# Altium integrated library NSC Legacy.IntLib: 687 symbols (part 8 of 17)
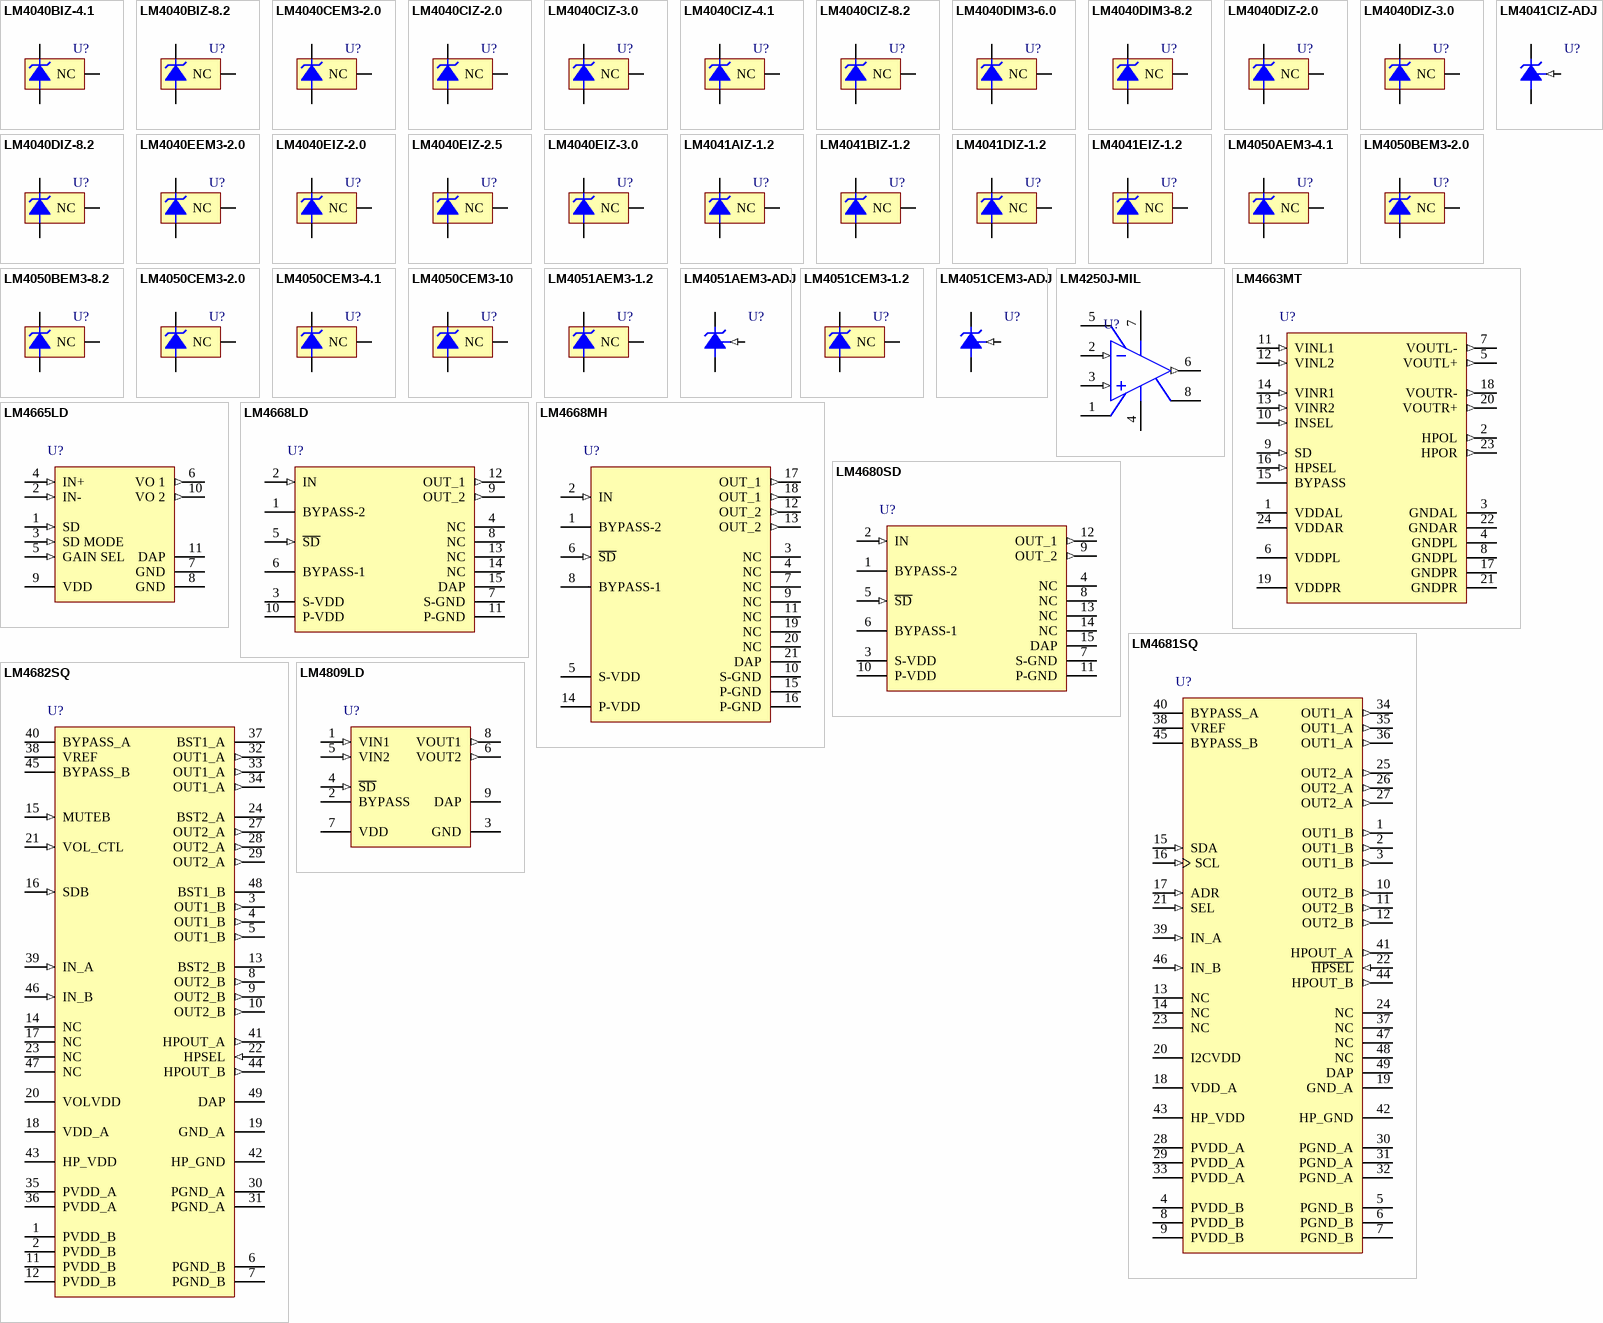
[diagram p31: symbols LM4040BIZ-4.1 to LM4809LD]

## LM4041CIZ-ADJ
designator U?
Precision Micropower Shunt Voltage Reference, 3-pin TO-92; PartNumber: LM4041CIZ-ADJ; Manufacturer: National Semiconductor; PackageTopMarking: NSXYTT*4041C*IZADJ; CompType: Voltage Reference IC; Published: 4-Dec-2008; LatestRevisionDate: 15-Jul-2009; LatestRevisionNote: Sch pins 1 & 3 reversed.; DatasheetVersion: Mar-2005; PackageVersion: revG, Sep-2000; PackageReference: Z03A; Publisher: Altium Limited; PackageDescription: TO-92, Molded, 3 Lead; RoHS: Y; PinCount: 3; Code_JEDEC: TO-226-AA; ComponentLink1Description: LM4041 Datasheet; ComponentLink1URL: http://www.national.com/ds/LM/LM4041.pdf; ComponentLink2Description: LM4041 Web Page; ComponentLink2URL: http://www.national.com/pf/LM/LM4041.html; ComponentLink3Description: Z03A Package Page; ComponentLink3URL: http://www.national.com/packaging/folders/z03a.html
footprint Z03A (TO, Flat Index; 3 In-Line, Axial Leads; Body Dia. 5mm; Leads 0.55 x 0.50 mm (max))
pins: 1 FB (in), 2 +V, 3 -V

## LM4041DIZ-1.2
designator U?
Precision Micropower Shunt Voltage Reference, 3-pin TO-92; PartNumber: LM4041DIZ-1.2; Manufacturer: National Semiconductor; PackageTopMarking: NSXYTT*4041D*IZ1.2; CompType: Voltage Reference IC; Published: 4-Dec-2008; LatestRevisionDate: 15-Jul-2009; LatestRevisionNote: Sch pins 1 & 3 reversed.; DatasheetVersion: Mar-2005; PackageVersion: revG, Sep-2000; PackageReference: Z03A; Publisher: Altium Limited; PackageDescription: TO-92, Molded, 3 Lead; Supplier 1: Farnell; Supplier Part Number 1: 9485988; RoHS: Y; PinCount: 3; Code_JEDEC: TO-226-AA; ComponentLink1Description: LM4041 Datasheet; ComponentLink1URL: http://www.national.com/ds/LM/LM4041.pdf; ComponentLink2Description: LM4041 Web Page; ComponentLink2URL: http://www.national.com/pf/LM/LM4041.html; ComponentLink3Description: Z03A Package Page; ComponentLink3URL: http://www.national.com/packaging/folders/z03a.html
footprint Z03A (TO, Flat Index; 3 In-Line, Axial Leads; Body Dia. 5mm; Leads 0.55 x 0.50 mm (max))
pins: 1 NC, 2 +V, 3 -V

## LM4041EIZ-1.2
designator U?
Precision Micropower Shunt Voltage Reference, 3-pin TO-92; PartNumber: LM4041EIZ-1.2; Manufacturer: National Semiconductor; PackageTopMarking: NSXYTT*4041E*IZ1.2; CompType: Voltage Reference IC; Published: 4-Dec-2008; LatestRevisionDate: 15-Jul-2009; LatestRevisionNote: Sch pins 1 & 3 reversed.; DatasheetVersion: Mar-2005; PackageVersion: revG, Sep-2000; PackageReference: Z03A; Publisher: Altium Limited; PackageDescription: TO-92, Molded, 3 Lead; RoHS: Y; PinCount: 3; Code_JEDEC: TO-226-AA; ComponentLink1Description: LM4041 Datasheet; ComponentLink1URL: http://www.national.com/ds/LM/LM4041.pdf; ComponentLink2Description: LM4041 Web Page; ComponentLink2URL: http://www.national.com/pf/LM/LM4041.html; ComponentLink3Description: Z03A Package Page; ComponentLink3URL: http://www.national.com/packaging/folders/z03a.html
footprint Z03A (TO, Flat Index; 3 In-Line, Axial Leads; Body Dia. 5mm; Leads 0.55 x 0.50 mm (max))
pins: 1 NC, 2 +V, 3 -V

## LM4050AEM3-4.1
designator U?
Precision Micropower Shunt Voltage Reference, 3-pin SOT-23; PartNumber: LM4050AEM3-4.1; Manufacturer: National Semiconductor; PackageTopMarking: RDA*XTT; CompType: Voltage Reference IC; Published: 4-Dec-2008; DatasheetVersion: Jul-2004; PackageVersion: revB, Mar-2003; PackageReference: MF03A; Publisher: Altium Limited; PackageDescription: Molded SOT-23, .115 x .051 x .037in Body, 3 Lead, .075 in Pitch; RoHS: Y; PinCount: 3; ComponentLink1Description: LM4050 Datasheet; ComponentLink1URL: http://www.national.com/ds/LM/LM4050.pdf; ComponentLink2Description: LM4050 Web Page; ComponentLink2URL: http://www.national.com/pf/LM/LM4050.html; ComponentLink3Description: MF03A Package Page; ComponentLink3URL: http://www.national.com/packaging/folders/mf03a.html
footprint MF03A_N (SOT23, 3-Leads, Body 2.9x1.3mm, Pitch 0.95mm, Lead Span 2.4mm, IPC Medium Density)
footprint MF03A_L (SOT23, 3-Leads, Body 2.9x1.3mm, Pitch 0.95mm, Lead Span 2.4mm, IPC High Density)
footprint MF03A_M (SOT23, 3-Leads, Body 2.9x1.3mm, Pitch 0.95mm, Lead Span 2.4mm, IPC Low Density)
pins: 1 +V, 2 -V, 3 NC

## LM4050BEM3-2.0
designator U?
Precision Micropower Shunt Voltage Reference, 3-pin SOT-23; PartNumber: LM4050BEM3-2.0; Manufacturer: National Semiconductor; PackageTopMarking: RNB*XTT; CompType: Voltage Reference IC; Published: 4-Dec-2008; DatasheetVersion: Jul-2004; PackageVersion: revB, Mar-2003; PackageReference: MF03A; Publisher: Altium Limited; PackageDescription: Molded SOT-23, .115 x .051 x .037in Body, 3 Lead, .075 in Pitch; RoHS: Y; PinCount: 3; ComponentLink1Description: LM4050 Datasheet; ComponentLink1URL: http://www.national.com/ds/LM/LM4050.pdf; ComponentLink2Description: LM4050 Web Page; ComponentLink2URL: http://www.national.com/pf/LM/LM4050.html; ComponentLink3Description: MF03A Package Page; ComponentLink3URL: http://www.national.com/packaging/folders/mf03a.html
footprint MF03A_N (SOT23, 3-Leads, Body 2.9x1.3mm, Pitch 0.95mm, Lead Span 2.4mm, IPC Medium Density)
footprint MF03A_L (SOT23, 3-Leads, Body 2.9x1.3mm, Pitch 0.95mm, Lead Span 2.4mm, IPC High Density)
footprint MF03A_M (SOT23, 3-Leads, Body 2.9x1.3mm, Pitch 0.95mm, Lead Span 2.4mm, IPC Low Density)
pins: 1 +V, 2 -V, 3 NC

## LM4050BEM3-8.2
designator U?
Precision Micropower Shunt Voltage Reference, 3-pin SOT-23; PartNumber: LM4050BEM3-8.2; Manufacturer: National Semiconductor; PackageTopMarking: RFB*XTT; CompType: Voltage Reference IC; Published: 4-Dec-2008; DatasheetVersion: Jul-2004; PackageVersion: revB, Mar-2003; PackageReference: MF03A; Publisher: Altium Limited; PackageDescription: Molded SOT-23, .115 x .051 x .037in Body, 3 Lead, .075 in Pitch; RoHS: Y; PinCount: 3; ComponentLink1Description: LM4050 Datasheet; ComponentLink1URL: http://www.national.com/ds/LM/LM4050.pdf; ComponentLink2Description: LM4050 Web Page; ComponentLink2URL: http://www.national.com/pf/LM/LM4050.html; ComponentLink3Description: MF03A Package Page; ComponentLink3URL: http://www.national.com/packaging/folders/mf03a.html
footprint MF03A_N (SOT23, 3-Leads, Body 2.9x1.3mm, Pitch 0.95mm, Lead Span 2.4mm, IPC Medium Density)
footprint MF03A_L (SOT23, 3-Leads, Body 2.9x1.3mm, Pitch 0.95mm, Lead Span 2.4mm, IPC High Density)
footprint MF03A_M (SOT23, 3-Leads, Body 2.9x1.3mm, Pitch 0.95mm, Lead Span 2.4mm, IPC Low Density)
pins: 1 +V, 2 -V, 3 NC

## LM4050CEM3-2.0
designator U?
Precision Micropower Shunt Voltage Reference, 3-pin SOT-23; PartNumber: LM4050CEM3-2.0; Manufacturer: National Semiconductor; PackageTopMarking: RNC*XTT; CompType: Voltage Reference IC; Published: 4-Dec-2008; DatasheetVersion: Jul-2004; PackageVersion: revB, Mar-2003; PackageReference: MF03A; Publisher: Altium Limited; PackageDescription: Molded SOT-23, .115 x .051 x .037in Body, 3 Lead, .075 in Pitch; Supplier 1: Farnell; Supplier Part Number 1: 1008015; RoHS: Y; PinCount: 3; ComponentLink1Description: LM4050 Datasheet; ComponentLink1URL: http://www.national.com/ds/LM/LM4050.pdf; ComponentLink2Description: LM4050 Web Page; ComponentLink2URL: http://www.national.com/pf/LM/LM4050.html; ComponentLink3Description: MF03A Package Page; ComponentLink3URL: http://www.national.com/packaging/folders/mf03a.html
footprint MF03A_N (SOT23, 3-Leads, Body 2.9x1.3mm, Pitch 0.95mm, Lead Span 2.4mm, IPC Medium Density)
footprint MF03A_L (SOT23, 3-Leads, Body 2.9x1.3mm, Pitch 0.95mm, Lead Span 2.4mm, IPC High Density)
footprint MF03A_M (SOT23, 3-Leads, Body 2.9x1.3mm, Pitch 0.95mm, Lead Span 2.4mm, IPC Low Density)
pins: 1 +V, 2 -V, 3 NC

## LM4050CEM3-4.1
designator U?
Precision Micropower Shunt Voltage Reference, 3-pin SOT-23; PartNumber: LM4050CEM3-4.1; Manufacturer: National Semiconductor; PackageTopMarking: RDC*XTT; CompType: Voltage Reference IC; Published: 4-Dec-2008; DatasheetVersion: Jul-2004; PackageVersion: revB, Mar-2003; PackageReference: MF03A; Publisher: Altium Limited; PackageDescription: Molded SOT-23, .115 x .051 x .037in Body, 3 Lead, .075 in Pitch; RoHS: Y; PinCount: 3; ComponentLink1Description: LM4050 Datasheet; ComponentLink1URL: http://www.national.com/ds/LM/LM4050.pdf; ComponentLink2Description: LM4050 Web Page; ComponentLink2URL: http://www.national.com/pf/LM/LM4050.html; ComponentLink3Description: MF03A Package Page; ComponentLink3URL: http://www.national.com/packaging/folders/mf03a.html
footprint MF03A_N (SOT23, 3-Leads, Body 2.9x1.3mm, Pitch 0.95mm, Lead Span 2.4mm, IPC Medium Density)
footprint MF03A_L (SOT23, 3-Leads, Body 2.9x1.3mm, Pitch 0.95mm, Lead Span 2.4mm, IPC High Density)
footprint MF03A_M (SOT23, 3-Leads, Body 2.9x1.3mm, Pitch 0.95mm, Lead Span 2.4mm, IPC Low Density)
pins: 1 +V, 2 -V, 3 NC

## LM4050CEM3-10
designator U?
Precision Micropower Shunt Voltage Reference, 3-pin SOT-23; PartNumber: LM4050CEM3-10; Manufacturer: National Semiconductor; PackageTopMarking: RGC*XTT; CompType: Voltage Reference IC; Published: 4-Dec-2008; DatasheetVersion: Jul-2004; PackageVersion: revB, Mar-2003; PackageReference: MF03A; Publisher: Altium Limited; PackageDescription: Molded SOT-23, .115 x .051 x .037in Body, 3 Lead, .075 in Pitch; Supplier 1: Digi-Key; Supplier Part Number 1: LM4050CEM3-10TR-ND; Supplier 2: Digi-Key; Supplier Part Number 2: LM4050CEM3-10CT-ND; Supplier 3: Digi-Key; Supplier Part Number 3: LM4050CEM3-10DKR-ND; RoHS: Y; PinCount: 3; ComponentLink1Description: LM4050 Datasheet; ComponentLink1URL: http://www.national.com/ds/LM/LM4050.pdf; ComponentLink2Description: LM4050 Web Page; ComponentLink2URL: http://www.national.com/pf/LM/LM4050.html; ComponentLink3Description: MF03A Package Page; ComponentLink3URL: http://www.national.com/packaging/folders/mf03a.html
footprint MF03A_N (SOT23, 3-Leads, Body 2.9x1.3mm, Pitch 0.95mm, Lead Span 2.4mm, IPC Medium Density)
footprint MF03A_L (SOT23, 3-Leads, Body 2.9x1.3mm, Pitch 0.95mm, Lead Span 2.4mm, IPC High Density)
footprint MF03A_M (SOT23, 3-Leads, Body 2.9x1.3mm, Pitch 0.95mm, Lead Span 2.4mm, IPC Low Density)
pins: 1 +V, 2 -V, 3 NC

## LM4051AEM3-1.2
designator U?
Precision Micropower Shunt Voltage Reference, 3-pin SOT-23; PartNumber: LM4051AEM3-1.2; Manufacturer: National Semiconductor; PackageTopMarking: RHA*XTT; CompType: Voltage Reference IC; Published: 4-Dec-2008; DatasheetVersion: Mar-2005; PackageVersion: revB, Mar-2003; PackageReference: MF03A; Publisher: Altium Limited; PackageDescription: Molded SOT-23, .115 x .051 x .037in Body, 3 Lead, .075 in Pitch; Supplier 1: Digi-Key; Supplier Part Number 1: LM4051AEM3-1.2TR-ND; Supplier 2: Digi-Key; Supplier Part Number 2: LM4051AEM3-1.2CT-ND; Supplier 3: Digi-Key; Supplier Part Number 3: LM4051AEM3-1.2DKR-ND; RoHS: Y; PinCount: 3; ComponentLink1Description: LM4051 Datasheet; ComponentLink1URL: http://www.national.com/ds/LM/LM4051.pdf; ComponentLink2Description: LM4051 Web Page; ComponentLink2URL: http://www.national.com/pf/LM/LM4051.html; ComponentLink3Description: MF03A Package Page; ComponentLink3URL: http://www.national.com/packaging/folders/mf03a.html
footprint MF03A_N (SOT23, 3-Leads, Body 2.9x1.3mm, Pitch 0.95mm, Lead Span 2.4mm, IPC Medium Density)
footprint MF03A_L (SOT23, 3-Leads, Body 2.9x1.3mm, Pitch 0.95mm, Lead Span 2.4mm, IPC High Density)
footprint MF03A_M (SOT23, 3-Leads, Body 2.9x1.3mm, Pitch 0.95mm, Lead Span 2.4mm, IPC Low Density)
pins: 1 +V, 2 -V, 3 NC

## LM4051AEM3-ADJ
designator U?
Precision Micropower Shunt Voltage Reference, 3-pin SOT-23; PartNumber: LM4051AEM3-ADJ; Manufacturer: National Semiconductor; PackageTopMarking: RIA*XTT; CompType: Voltage Reference IC; Published: 4-Dec-2008; DatasheetVersion: Mar-2005; PackageVersion: revB, Mar-2003; PackageReference: MF03A; Publisher: Altium Limited; PackageDescription: Molded SOT-23, .115 x .051 x .037in Body, 3 Lead, .075 in Pitch; RoHS: Y; PinCount: 3; ComponentLink1Description: LM4051 Datasheet; ComponentLink1URL: http://www.national.com/ds/LM/LM4051.pdf; ComponentLink2Description: LM4051 Web Page; ComponentLink2URL: http://www.national.com/pf/LM/LM4051.html; ComponentLink3Description: MF03A Package Page; ComponentLink3URL: http://www.national.com/packaging/folders/mf03a.html
footprint MF03A_N (SOT23, 3-Leads, Body 2.9x1.3mm, Pitch 0.95mm, Lead Span 2.4mm, IPC Medium Density)
footprint MF03A_L (SOT23, 3-Leads, Body 2.9x1.3mm, Pitch 0.95mm, Lead Span 2.4mm, IPC High Density)
footprint MF03A_M (SOT23, 3-Leads, Body 2.9x1.3mm, Pitch 0.95mm, Lead Span 2.4mm, IPC Low Density)
pins: 1 FB (in), 2 +V, 3 -V

## LM4051CEM3-1.2
designator U?
Precision Micropower Shunt Voltage Reference, 3-pin SOT-23; PartNumber: LM4051CEM3-1.2; Manufacturer: National Semiconductor; PackageTopMarking: RHC*XTT; CompType: Voltage Reference IC; Published: 4-Dec-2008; DatasheetVersion: Mar-2005; PackageVersion: revB, Mar-2003; PackageReference: MF03A; Publisher: Altium Limited; PackageDescription: Molded SOT-23, .115 x .051 x .037in Body, 3 Lead, .075 in Pitch; RoHS: Y; PinCount: 3; ComponentLink1Description: LM4051 Datasheet; ComponentLink1URL: http://www.national.com/ds/LM/LM4051.pdf; ComponentLink2Description: LM4051 Web Page; ComponentLink2URL: http://www.national.com/pf/LM/LM4051.html; ComponentLink3Description: MF03A Package Page; ComponentLink3URL: http://www.national.com/packaging/folders/mf03a.html
footprint MF03A_N (SOT23, 3-Leads, Body 2.9x1.3mm, Pitch 0.95mm, Lead Span 2.4mm, IPC Medium Density)
footprint MF03A_L (SOT23, 3-Leads, Body 2.9x1.3mm, Pitch 0.95mm, Lead Span 2.4mm, IPC High Density)
footprint MF03A_M (SOT23, 3-Leads, Body 2.9x1.3mm, Pitch 0.95mm, Lead Span 2.4mm, IPC Low Density)
pins: 1 +V, 2 -V, 3 NC

## LM4051CEM3-ADJ
designator U?
Precision Micropower Shunt Voltage Reference, 3-pin SOT-23; PartNumber: LM4051CEM3-ADJ; Manufacturer: National Semiconductor; PackageTopMarking: RIC*XTT; CompType: Voltage Reference IC; Published: 4-Dec-2008; DatasheetVersion: Mar-2005; PackageVersion: revB, Mar-2003; PackageReference: MF03A; Publisher: Altium Limited; PackageDescription: Molded SOT-23, .115 x .051 x .037in Body, 3 Lead, .075 in Pitch; RoHS: Y; PinCount: 3; ComponentLink1Description: LM4051 Datasheet; ComponentLink1URL: http://www.national.com/ds/LM/LM4051.pdf; ComponentLink2Description: LM4051 Web Page; ComponentLink2URL: http://www.national.com/pf/LM/LM4051.html; ComponentLink3Description: MF03A Package Page; ComponentLink3URL: http://www.national.com/packaging/folders/mf03a.html
footprint MF03A_N (SOT23, 3-Leads, Body 2.9x1.3mm, Pitch 0.95mm, Lead Span 2.4mm, IPC Medium Density)
footprint MF03A_L (SOT23, 3-Leads, Body 2.9x1.3mm, Pitch 0.95mm, Lead Span 2.4mm, IPC High Density)
footprint MF03A_M (SOT23, 3-Leads, Body 2.9x1.3mm, Pitch 0.95mm, Lead Span 2.4mm, IPC Low Density)
pins: 1 FB (in), 2 +V, 3 -V

## LM4250J-MIL
designator U?
Programmable Operational Amplifier, 8-pin CerDIP; PartNumber: LM4250J-MIL; Manufacturer: National Semiconductor; PackageTopMarking: NSZSSXXYYA*LM4250J*-MIL; CompType: Amplifiers; Published: 4-Dec-2008; DatasheetVersion: Aug-2000; PackageVersion: revM, Jul-2002; PackageReference: J08A; Publisher: Altium Limited; PackageDescription: Cerdip, .400 x .310in Body, 8 Lead, .300in Centers, .100in Pitch; RoHS: N; PinCount: 8; ComponentLink1Description: LM4250 Datasheet; ComponentLink1URL: http://www.national.com/ds/LM/LM4250.pdf; ComponentLink2Description: LM4250 Web Page; ComponentLink2URL: http://www.national.com/pf/LM/LM4250.html; ComponentLink3Description: J08A Package Page; ComponentLink3URL: http://www.national.com/packaging/folders/j08a.html
footprint J08A (DIP, 8-Leads, Row Spacing 7.62mm, Pitch 2.54mm, Body 9.78x6.73mm)
pins: 1 OFS NULL, 2 IN- (in), 3 IN+ (in), 4 V- (power), 5 OFS NULL, 6 OUT (out), 7 V+ (power), 8 I SET

## LM4663MT
designator U?
2.5 W Stereo Class D Audio Power Amplifier, 24-pin TSSOP; PartNumber: LM4663MT; Manufacturer: National Semiconductor; PackageTopMarking: NSUZXYTT*LM4663MT; CompType: Audio IC; Published: 4-Dec-2008; DatasheetVersion: Apr-2006; PackageVersion: revE, Mar-2003; PackageReference: MTC24; Publisher: Altium Limited; PackageDescription: Molded TSSOP, Jedec, 7.8 x 4.4 x 0.9mm Body, 24 Lead, 0.65mm Pitch; Supplier 1: Farnell; Supplier Part Number 1: 9778969; RoHS: Y; PinCount: 24; Code_JEDEC: MO-153-AD; ComponentLink1Description: LM4663 Datasheet; ComponentLink1URL: http://www.national.com/ds/LM/LM4663.pdf; ComponentLink2Description: LM4663 Web Page; ComponentLink2URL: http://www.national.com/pf/LM/LM4663.html; ComponentLink3Description: MTC24 Package Page; ComponentLink3URL: http://www.national.com/packaging/folders/mtc24.html
footprint MTC24_N (TSOP, 24-Leads, Body 7.8x4.4mm, Pitch 0.65mm, IPC Medium Density)
footprint MTC24_L (TSOP, 24-Leads, Body 7.8x4.4mm, Pitch 0.65mm, IPC High Density)
footprint MTC24_M (TSOP, 24-Leads, Body 7.8x4.4mm, Pitch 0.65mm, IPC Low Density)
pins: 1 VDDAL (power), 2 HPOL (out), 3 GNDAL (power), 4 GNDPL (power), 5 VOUTL+ (out), 6 VDDPL (power), 7 VOUTL- (out), 8 GNDPL (power), 9 SD (in), 10 INSEL (in), 11 VINL1 (in), 12 VINL2 (in), 13 VINR2 (in), 14 VINR1 (in), 15 BYPASS, 16 HPSEL (in), 17 GNDPR (power), 18 VOUTR- (out), 19 VDDPR (power), 20 VOUTR+ (out), 21 GNDPR (power), 22 GNDAR (power), 23 HPOR (out), 24 VDDAR (power)

## LM4665LD
designator U?
Filterless High Efficiency 1W Switching Audio Amplifier, 11-pin LLP; PartNumber: LM4665LD; Manufacturer: National Semiconductor; PackageTopMarking: ZXYTT*L4665; CompType: Audio IC; Published: 4-Dec-2008; DatasheetVersion: Dec-2002; PackageVersion: revB, Jun-2003; PackageReference: LDA10B; Publisher: Altium Limited; PackageDescription: LLP, Plastic, Dual, 3 x 4 x 0.75mm Body, 10 Lead, 0.5mm Pitch; RoHS: Y; PinCount: 10; Code_JEDEC: MO-229-WEGD; ComponentLink1Description: LM4665 Datasheet; ComponentLink1URL: http://www.national.com/ds/LM/LM4665.pdf; ComponentLink2Description: LM4665 Web Page; ComponentLink2URL: http://www.national.com/pf/LM/LM4665.html; ComponentLink3Description: LDA10B Package Page; ComponentLink3URL: http://www.national.com/packaging/folders/lda10b.html
footprint LDA10B (PSON, 10-Leads, Body 3x4mm, Pitch 0.5mm, NSC Recommended)
pins: 1 SD (in), 2 IN- (in), 3 SD MODE (in), 4 IN+ (in), 5 GAIN SEL (in), 6 VO 1 (out), 7 GND (power), 8 GND (power), 9 VDD (power), 10 VO 2 (out), 11 DAP (power)

## LM4668LD
designator U?
10W High-Efficiency Mono BTL Audio Power Amplifier, 15-pin LLP; PartNumber: LM4668LD; Manufacturer: National Semiconductor; PackageTopMarking: NS*UZXYTT*L4668LD; PowerWise: N; CompType: Audio IC; Published: 4-Dec-2008; DatasheetVersion: Oct-2004; PackageVersion: revA, Dec-2000; PackageReference: LDC14A; Publisher: Altium Limited; PackageDescription: Power LLP, Plastic, Dual, 6 x 5 x 1.0mm Body, 14 Lead, 0.8mm Pitch; Supplier 1: Farnell; Supplier Part Number 1: 8238669; RoHS: Y; PinCount: 14; ComponentLink1Description: LM4668 Datasheet; ComponentLink1URL: http://www.national.com/ds/LM/LM4668.pdf; ComponentLink2Description: LM4668 Web Page; ComponentLink2URL: http://www.national.com/pf/LM/LM4668.html; ComponentLink3Description: LDC14A Package Page; ComponentLink3URL: http://www.national.com/packaging/folders/ldc14a.html
footprint LDC14A (PSON, 14-Leads, Body 6x5mm, Pitch 0.8mm, NSC Recommended)
pins: 1 BYPASS-2, 2 IN (in), 3 S-VDD (power), 4 NC, 5 ~{SD} (in), 6 BYPASS-1, 7 S-GND (power), 8 NC, 9 OUT_2 (out), 10 P-VDD (power), 11 P-GND (power), 12 OUT_1 (out), 13 NC, 14 NC, 15 DAP (power)

## LM4668MH
designator U?
10W High-Efficiency Mono BTL Audio Power Amplifier, 21-pin TSSOP-EP; PartNumber: LM4668MH; Manufacturer: National Semiconductor; PackageTopMarking: NSUZXYTT*LM4668*MH; PowerWise: N; CompType: Audio IC; Published: 4-Dec-2008; DatasheetVersion: Oct-2004; PackageVersion: revC, Jul-2006; PackageReference: MXA20A; Publisher: Altium Limited; PackageDescription: Molded TSSOP, Jedec, 6.5 x 4.4 x 0.9mm Body, 20 Lead, 0.65mm Pitch, Exposed Pad; RoHS: Y; PinCount: 20; Code_JEDEC: MO-153-ACT; ComponentLink1Description: LM4668 Datasheet; ComponentLink1URL: http://www.national.com/ds/LM/LM4668.pdf; ComponentLink2Description: LM4668 Web Page; ComponentLink2URL: http://www.national.com/pf/LM/LM4668.html; ComponentLink3Description: MXA20A Package Page; ComponentLink3URL: http://www.national.com/packaging/folders/mxa20a.html
footprint MXA20A_N (TSOP, 20-Leads, Body 6.5x4.4mm, Pitch 0.65mm, Exposed Pad, IPC Medium Density)
footprint MXA20A_L (TSOP, 20-Leads, Body 6.5x4.4mm, Pitch 0.65mm, Exposed Pad, IPC High Density)
footprint MXA20A_M (TSOP, 20-Leads, Body 6.5x4.4mm, Pitch 0.65mm, Exposed Pad, IPC Low Density)
pins: 1 BYPASS-2, 2 IN (in), 3 NC, 4 NC, 5 S-VDD (power), 6 ~{SD} (in), 7 NC, 8 BYPASS-1, 9 NC, 10 S-GND (power), 11 NC, 12 OUT_2 (out), 13 OUT_2 (out), 14 P-VDD (power), 15 P-GND (power), 16 P-GND (power), 17 OUT_1 (out), 18 OUT_1 (out), 19 NC, 20 NC, 21 DAP (power)

## LM4680SD
designator U?
10W High-Efficiency Mono BTL Audio Power Amplifier, 15-pin LLP; PartNumber: LM4680SD; Manufacturer: National Semiconductor; PackageTopMarking: NS*UZXYTT*L4680SD; PowerWise: N; CompType: Audio IC; Published: 4-Dec-2008; DatasheetVersion: Jan-2005; PackageVersion: revA, Jul-2003; PackageReference: SRC14A; Publisher: Altium Limited; PackageDescription: LLP, Plastic, Dual, 6 x 5 x 1mm Body, 14 Lead, 0.8mm Pitch, No Pullback; Supplier 1: Farnell; Supplier Part Number 1: 1008017; RoHS: Y; PinCount: 14; ComponentLink1Description: LM4680 Datasheet; ComponentLink1URL: http://www.national.com/ds/LM/LM4680.pdf; ComponentLink2Description: LM4680 Web Page; ComponentLink2URL: http://www.national.com/pf/LM/LM4680.html; ComponentLink3Description: SRC14A Package Page; ComponentLink3URL: http://www.national.com/packaging/folders/src14a.html
footprint SRC14A (SON, 14-Leads, Body 6x5 mm, Pitch 0.8mm, NSC Recommended)
pins: 1 BYPASS-2, 2 IN (in), 3 S-VDD (power), 4 NC, 5 ~{SD} (in), 6 BYPASS-1, 7 S-GND (power), 8 NC, 9 OUT_2 (out), 10 P-VDD (power), 11 P-GND (power), 12 OUT_1 (out), 13 NC, 14 NC, 15 DAP (power)

## LM4681SQ
designator U?
10W Stereo CLASS D Audio Power Amplifier with Stereo Headphone Amplifier and I2C/SPI Volume Control, 49-pin LLP; PartNumber: LM4681SQ; Manufacturer: National Semiconductor; PackageTopMarking: NS*UZXYTT*L4681SQ; PowerWise: N; CompType: Audio IC; Published: 4-Dec-2008; DatasheetVersion: Mar-2006; PackageVersion: revB, May-2009; PackageReference: SQA48A; Publisher: Altium Limited; PackageDescription: LLP, Plastic, Quad, 7 x 7 x 0.8mm Body, 48 Lead, 0.5mm Pitch, No Pullback; RoHS: Y; PinCount: 48; Code_JEDEC: MO-220-WKKD-2; ComponentLink1Description: LM4681 Datasheet; ComponentLink1URL: http://www.national.com/ds/LM/LM4681.pdf; ComponentLink2Description: LM4681 Web Page; ComponentLink2URL: http://www.national.com/pf/LM/LM4681.html; ComponentLink3Description: SQA48A Package Page; ComponentLink3URL: http://www.national.com/packaging/folders/sqa48a.html
footprint SQA48A (QFN, 48-Leads, Body 7x7mm, Pitch 0.5mm, NSC Recommended)
pins: 1 OUT1_B (out), 2 OUT1_B (out), 3 OUT1_B (out), 4 PVDD_B (power), 5 PGND_B (power), 6 PGND_B (power), 7 PGND_B (power), 8 PVDD_B (power), 9 PVDD_B (power), 10 OUT2_B (out), 11 OUT2_B (out), 12 OUT2_B (out), 13 NC, 14 NC, 15 SDA (in), 16 SCL (in), 17 ADR (in), 18 VDD_A (power), 19 GND_A (power), 20 I2CVDD (power), 21 SEL (in), 22 ~{HPSEL} (in), 23 NC, 24 NC, 25 OUT2_A (out), 26 OUT2_A (out), 27 OUT2_A (out), 28 PVDD_A (power), 29 PVDD_A (power), 30 PGND_A (power), 31 PGND_A (power), 32 PGND_A (power), 33 PVDD_A (power), 34 OUT1_A (out), 35 OUT1_A (out), 36 OUT1_A (out), 37 NC, 38 VREF, 39 IN_A (in), 40 BYPASS_A, 41 HPOUT_A (out), 42 HP_GND (power), 43 HP_VDD (power), 44 HPOUT_B (out), 45 BYPASS_B, 46 IN_B (in), 47 NC, 48 NC, 49 DAP (power)

## LM4682SQ
designator U?
10W Stereo CLASS D Audio Power Amplifier with Stereo Headphone Amplifier and DC Volume Control, 49-pin LLP; PartNumber: LM4682SQ; Manufacturer: National Semiconductor; PackageTopMarking: NS*UZXYTT*L4682SQ; PowerWise: N; CompType: Audio IC; Published: 4-Dec-2008; DatasheetVersion: Apr-2008; PackageVersion: revB, May-2009; PackageReference: SQA48A; Publisher: Altium Limited; PackageDescription: LLP, Plastic, Quad, 7 x 7 x 0.8mm Body, 48 Lead, 0.5mm Pitch, No Pullback; RoHS: Y; PinCount: 48; Code_JEDEC: MO-220-WKKD-2; ComponentLink1Description: LM4682 Datasheet; ComponentLink1URL: http://www.national.com/ds/LM/LM4682.pdf; ComponentLink2Description: LM4682 Web Page; ComponentLink2URL: http://www.national.com/pf/LM/LM4682.html; ComponentLink3Description: SQA48A Package Page; ComponentLink3URL: http://www.national.com/packaging/folders/sqa48a.html
footprint SQA48A (QFN, 48-Leads, Body 7x7mm, Pitch 0.5mm, NSC Recommended)
pins: 1 PVDD_B (power), 2 PVDD_B (power), 3 OUT1_B (out), 4 OUT1_B (out), 5 OUT1_B (out), 6 PGND_B (power), 7 PGND_B (power), 8 OUT2_B (out), 9 OUT2_B (out), 10 OUT2_B (out), 11 PVDD_B (power), 12 PVDD_B (power), 13 BST2_B, 14 NC, 15 MUTEB (in), 16 SDB (in), 17 NC, 18 VDD_A (power), 19 GND_A (power), 20 VOLVDD (power), 21 VOL_CTL (in), 22 HPSEL (in), 23 NC, 24 BST2_A, 27 OUT2_A (out), 28 OUT2_A (out), 29 OUT2_A (out), 30 PGND_A (power), 31 PGND_A (power), 32 OUT1_A (out), 33 OUT1_A (out), 34 OUT1_A (out), 35 PVDD_A (power), 36 PVDD_A (power), 37 BST1_A, 38 VREF, 39 IN_A (in), 40 BYPASS_A, 41 HPOUT_A (out), 42 HP_GND (power), 43 HP_VDD (power), 44 HPOUT_B (out), 45 BYPASS_B, 46 IN_B (in), 47 NC, 48 BST1_B, 49 DAP (power)

## LM4809LD
designator U?
Dual 105mW Headphone Amplifier with Active-Low Shutdown Mode, 9-pin LLP; PartNumber: LM4809LD; Manufacturer: National Semiconductor; PackageTopMarking: XYTT*G09; CompType: Audio IC; Published: 4-Dec-2008; DatasheetVersion: Apr-2004; PackageVersion: revB, Jun-2003; PackageReference: LDA08B; Publisher: Altium Limited; PackageDescription: LLP, Plastic, Dual, 2.5 x 2.5 x 0.75mm Body, 8 Lead, 0.5mm Pitch; RoHS: Y; PinCount: 8; Code_JEDEC: MO-229-WDDD-2; ComponentLink1Description: LM4809 Datasheet; ComponentLink1URL: http://www.national.com/ds/LM/LM4809.pdf; ComponentLink2Description: LM4809 Web Page; ComponentLink2URL: http://www.national.com/pf/LM/LM4809.html; ComponentLink3Description: LDA08B Package Page; ComponentLink3URL: http://www.national.com/packaging/folders/lda08b.html
footprint LDA08B (PSON, 8-Leads, Body 2.5x2.5mm, Pitch 0.5mm, NSC Recommended)
pins: 1 VIN1 (in), 2 BYPASS, 3 GND (power), 4 ~{SD} (in), 5 VIN2 (in), 6 VOUT2 (out), 7 VDD (power), 8 VOUT1 (out), 9 DAP (power)

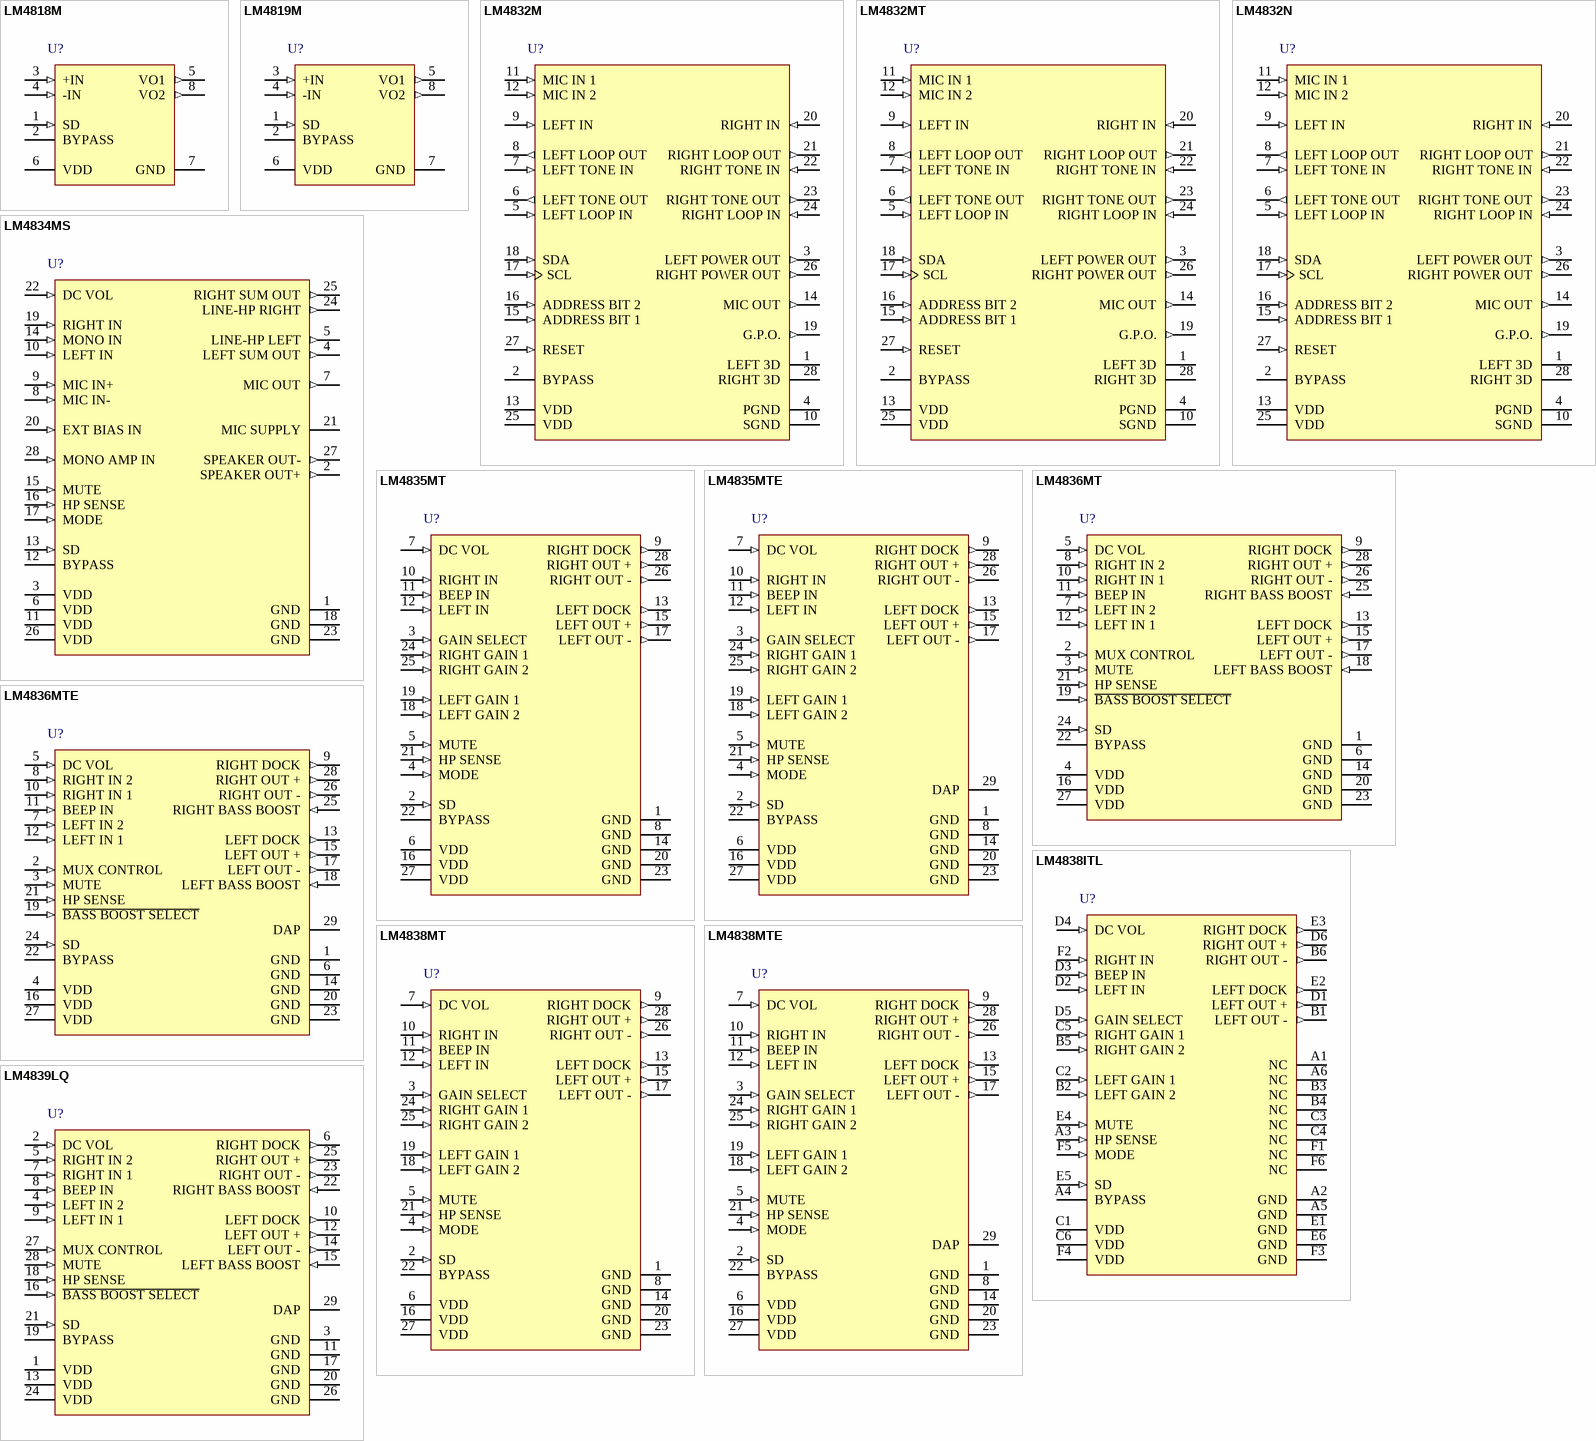
[diagram p12: symbols LM4818M to LM4839LQ]

## LM4818M
designator U?
350mW Audio Power Amplifier with Shutdown Mode, 8-pin Narrow SOIC; PartNumber: LM4818M; Manufacturer: National Semiconductor; PackageTopMarking: NSZXTT*LM48*18M; CompType: Audio IC; Published: 4-Dec-2008; DatasheetVersion: Apr-2002; PackageVersion: revM, May-2009; PackageReference: M08A; Publisher: Altium Limited; PackageDescription: SOIC Narrow, 4.9 x 3.9 x 1.45mm, 8 Lead, 1.27mm Pitch; RoHS: Y; PinCount: 8; Code_JEDEC: MS-012-AA; Code_IPC: SOIC127P600-8; ComponentLink1Description: LM4818 Datasheet; ComponentLink1URL: http://www.national.com/ds/LM/LM4818.pdf; ComponentLink2Description: LM4818 Web Page; ComponentLink2URL: http://www.national.com/pf/LM/LM4818.html; ComponentLink3Description: M08A Package Page; ComponentLink3URL: http://www.national.com/packaging/folders/m08a.html
footprint M08A_N (SOIC, 8-Leads, Body 4.9x3.9mm, Pitch 1.27mm, IPC Medium Density)
footprint M08A_L (SOIC, 8-Leads, Body 4.9x3.9mm, Pitch 1.27mm, IPC High Density)
footprint M08A_M (SOIC, 8-Leads, Body 4.9x3.9mm, Pitch 1.27mm, IPC Low Density)
pins: 1 SD (in), 2 BYPASS, 3 +IN (in), 4 -IN (in), 5 VO1 (out), 6 VDD (power), 7 GND (power), 8 VO2 (out)

## LM4819M
designator U?
350mW Audio Power Amplifier with Shutdown Mode, 8-pin Narrow SOIC; PartNumber: LM4819M; Manufacturer: National Semiconductor; PackageTopMarking: NSZXTT*LM48*19M; CompType: Audio IC; Published: 4-Dec-2008; DatasheetVersion: Apr-2002; PackageVersion: revM, May-2009; PackageReference: M08A; Publisher: Altium Limited; PackageDescription: SOIC Narrow, 4.9 x 3.9 x 1.45mm, 8 Lead, 1.27mm Pitch; Supplier 1: Digi-Key; Supplier Part Number 1: LM4819M-ND; RoHS: Y; PinCount: 8; Code_JEDEC: MS-012-AA; Code_IPC: SOIC127P600-8; ComponentLink1Description: LM4819 Datasheet; ComponentLink1URL: http://www.national.com/ds/LM/LM4819.pdf; ComponentLink2Description: LM4819 Web Page; ComponentLink2URL: http://www.national.com/pf/LM/LM4819.html; ComponentLink3Description: M08A Package Page; ComponentLink3URL: http://www.national.com/packaging/folders/m08a.html
footprint M08A_N (SOIC, 8-Leads, Body 4.9x3.9mm, Pitch 1.27mm, IPC Medium Density)
footprint M08A_L (SOIC, 8-Leads, Body 4.9x3.9mm, Pitch 1.27mm, IPC High Density)
footprint M08A_M (SOIC, 8-Leads, Body 4.9x3.9mm, Pitch 1.27mm, IPC Low Density)
pins: 1 SD (in), 2 BYPASS, 3 +IN (in), 4 -IN (in), 5 VO1 (out), 6 VDD (power), 7 GND (power), 8 VO2 (out)

## LM4832M
designator U?
Digitally Controlled Tone and Volume Circuit with Stereo Audio Power Amplifier, Microphone Preamp Stage and National 3D Sound, 28-pin Wide SOIC; PartNumber: LM4832M; Manufacturer: National Semiconductor; PackageTopMarking: NSUZXYTT*LM4832M; PowerWise: N; CompType: Audio IC; Published: 4-Dec-2008; DatasheetVersion: Dec-2003; PackageVersion: revB, Nov-1997; PackageReference: M28B; Publisher: Altium Limited; PackageDescription: Molded Package, S.O., .300in Wide, 28 Lead; RoHS: O; PinCount: 28; ComponentLink1Description: LM4832 Datasheet; ComponentLink1URL: http://www.national.com/ds/LM/LM4832.pdf; ComponentLink2Description: LM4832 Web Page; ComponentLink2URL: http://www.national.com/pf/LM/LM4832.html; ComponentLink3Description: M28B Package Page; ComponentLink3URL: http://www.national.com/packaging/folders/m28b.html
footprint M28B_N (SOIC, 28-Leads, Body 17.9x7.5mm, Pitch 1.27mm, IPC Medium Density)
footprint M28B_L (SOIC, 28-Leads, Body 17.9x7.5mm, Pitch 1.27mm, IPC High Density)
footprint M28B_M (SOIC, 28-Leads, Body 17.9x7.5mm, Pitch 1.27mm, IPC Low Density)
pins: 1 LEFT 3D, 2 BYPASS, 3 LEFT POWER OUT (out), 4 PGND (power), 5 LEFT LOOP IN (in), 6 LEFT TONE OUT (out), 7 LEFT TONE IN (in), 8 LEFT LOOP OUT (out), 9 LEFT IN (in), 10 SGND (power), 11 MIC IN 1 (in), 12 MIC IN 2 (in), 13 VDD (power), 14 MIC OUT (out), 15 ADDRESS BIT 1 (in), 16 ADDRESS BIT 2 (in), 17 SCL (in), 18 SDA (in), 19 G.P.O. (out), 20 RIGHT IN (in), 21 RIGHT LOOP OUT (out), 22 RIGHT TONE IN (in), 23 RIGHT TONE OUT (out), 24 RIGHT LOOP IN (in), 25 VDD (power), 26 RIGHT POWER OUT (out), 27 RESET (in), 28 RIGHT 3D

## LM4832MT
designator U?
Digitally Controlled Tone and Volume Circuit with Stereo Audio Power Amplifier, Microphone Preamp Stage and National 3D Sound, 28-pin TSSOP; PartNumber: LM4832MT; Manufacturer: National Semiconductor; PackageTopMarking: NSUZXYTT*LM4832MT; PowerWise: N; CompType: Audio IC; Published: 4-Dec-2008; DatasheetVersion: Dec-2003; PackageVersion: revD, Jan-2005; PackageReference: MTC28; Publisher: Altium Limited; PackageDescription: Molded TSSOP, Jedec, 9.7 x 4.4 x 0.9mm Body, 28 Lead, 0.65mm Pitch; RoHS: Y; PinCount: 28; Code_JEDEC: MO-153-AE; ComponentLink1Description: LM4832 Datasheet; ComponentLink1URL: http://www.national.com/ds/LM/LM4832.pdf; ComponentLink2Description: LM4832 Web Page; ComponentLink2URL: http://www.national.com/pf/LM/LM4832.html; ComponentLink3Description: MTC28 Package Page; ComponentLink3URL: http://www.national.com/packaging/folders/mtc28.html
footprint MTC28_N (TSOP, 28-Leads, Body 9.7x4.4mm, Pitch 0.65mm, IPC Medium Density)
footprint MTC28_L (TSOP, 28-Leads, Body 9.7x4.4mm, Pitch 0.65mm, IPC High Density)
footprint MTC28_M (TSOP, 28-Leads, Body 9.7x4.4mm, Pitch 0.65mm, IPC Low Density)
pins: 1 LEFT 3D, 2 BYPASS, 3 LEFT POWER OUT (out), 4 PGND (power), 5 LEFT LOOP IN (in), 6 LEFT TONE OUT (out), 7 LEFT TONE IN (in), 8 LEFT LOOP OUT (out), 9 LEFT IN (in), 10 SGND (power), 11 MIC IN 1 (in), 12 MIC IN 2 (in), 13 VDD (power), 14 MIC OUT (out), 15 ADDRESS BIT 1 (in), 16 ADDRESS BIT 2 (in), 17 SCL (in), 18 SDA (in), 19 G.P.O. (out), 20 RIGHT IN (in), 21 RIGHT LOOP OUT (out), 22 RIGHT TONE IN (in), 23 RIGHT TONE OUT (out), 24 RIGHT LOOP IN (in), 25 VDD (power), 26 RIGHT POWER OUT (out), 27 RESET (in), 28 RIGHT 3D

## LM4832N
designator U?
Digitally Controlled Tone and Volume Circuit with Stereo Audio Power Amplifier, Microphone Preamp Stage and National 3D Sound, 28-pin MDIP; PartNumber: LM4832N; Manufacturer: National Semiconductor; PackageTopMarking: NSUZXYYTTE#*LM4832N; CompType: Audio IC; Published: 4-Dec-2008; DatasheetVersion: Dec-2003; PackageVersion: 2000; PackageReference: N28B; Publisher: Altium Limited; PackageDescription: 28 Lead Molded Dip (N); Supplier 1: Farnell; Supplier Part Number 1: 688058; RoHS: Y; PinCount: 28; ComponentLink1Description: LM4832 Datasheet; ComponentLink1URL: http://www.national.com/ds/LM/LM4832.pdf; ComponentLink2Description: LM4832 Web Page; ComponentLink2URL: http://www.national.com/pf/LM/LM4832.html; ComponentLink3Description: NA28E Package Page; ComponentLink3URL: http://www.national.com/packaging/folders/na28e.html
footprint N28B (DIP, 28-Leads, Row Spacing 15.24mm, Pitch 2.54mm, Body 35.73x12.95mm)
pins: 1 LEFT 3D, 2 BYPASS, 3 LEFT POWER OUT (out), 4 PGND (power), 5 LEFT LOOP IN (in), 6 LEFT TONE OUT (out), 7 LEFT TONE IN (in), 8 LEFT LOOP OUT (out), 9 LEFT IN (in), 10 SGND (power), 11 MIC IN 1 (in), 12 MIC IN 2 (in), 13 VDD (power), 14 MIC OUT (out), 15 ADDRESS BIT 1 (in), 16 ADDRESS BIT 2 (in), 17 SCL (in), 18 SDA (in), 19 G.P.O. (out), 20 RIGHT IN (in), 21 RIGHT LOOP OUT (out), 22 RIGHT TONE IN (in), 23 RIGHT TONE OUT (out), 24 RIGHT LOOP IN (in), 25 VDD (power), 26 RIGHT POWER OUT (out), 27 RESET (in), 28 RIGHT 3D

## LM4834MS
designator U?
Boomer 1.75W Audio Power Amplifier with DC Volume Control and Microphone Preamp, 28-pin SSOP-EIAJ; PartNumber: LM4834MS; Manufacturer: National Semiconductor; PackageTopMarking: NSUZXYTT*LM4834MS; PowerWise: N; CompType: Audio IC; Published: 4-Dec-2008; DatasheetVersion: Aug-2000; PackageVersion: revC, Oct-2009; PackageReference: MSA28; Publisher: Altium Limited; PackageDescription: Molded SSOP, 5.3mm Body Width, 0.65mm Pitch, EIAJ, Type II, 28 Lead; RoHS: Y; PinCount: 28; Code_IPC: SOP65P780-28; ComponentLink1Description: LM4834 Datasheet; ComponentLink1URL: http://www.national.com/ds/LM/LM4834.pdf; ComponentLink2Description: LM4834 Web Page; ComponentLink2URL: http://www.national.com/pf/LM/LM4834.html; ComponentLink3Description: MSA28 Package Page; ComponentLink3URL: http://www.national.com/packaging/folders/msa28.html
footprint MSA28_N (SOP, 28-Leads, Body 10.2x5.3mm, Pitch 0.65mm, IPC Medium Density)
footprint MSA28_L (SOP, 28-Leads, Body 10.2x5.3mm, Pitch 0.65mm, IPC High Density)
footprint MSA28_M (SOP, 28-Leads, Body 10.2x5.3mm, Pitch 0.65mm, IPC Low Density)
pins: 1 GND (power), 2 SPEAKER OUT+ (out), 3 VDD (power), 4 LEFT SUM OUT (out), 5 LINE-HP LEFT (out), 6 VDD (power), 7 MIC OUT (out), 8 MIC IN- (in), 9 MIC IN+ (in), 10 LEFT IN (in), 11 VDD (power), 12 BYPASS, 13 SD (in), 14 MONO IN (in), 15 MUTE (in), 16 HP SENSE (in), 17 MODE (in), 18 GND (power), 19 RIGHT IN (in), 20 EXT BIAS IN (in), 21 MIC SUPPLY (power), 22 DC VOL (in), 23 GND (power), 24 LINE-HP RIGHT (out), 25 RIGHT SUM OUT (out), 26 VDD (power), 27 SPEAKER OUT- (out), 28 MONO AMP IN (in)

## LM4835MT
designator U?
Stereo 2W Audio Power Amplifiers with DC Volume Control and Selectable Gain, 28-pin TSSOP; PartNumber: LM4835MT; Manufacturer: National Semiconductor; PackageTopMarking: NSUZXYTT*LM4835MT; CompType: Audio IC; Published: 4-Dec-2008; DatasheetVersion: Feb-2003; PackageVersion: revD, Jan-2005; PackageReference: MTC28; Publisher: Altium Limited; PackageDescription: Molded TSSOP, Jedec, 9.7 x 4.4 x 0.9mm Body, 28 Lead, 0.65mm Pitch; Supplier 1: Digi-Key; Supplier Part Number 1: LM4835MT-ND; Supplier 2: Farnell; Supplier Part Number 2: 121770; RoHS: Y; PinCount: 28; Code_JEDEC: MO-153-AE; ComponentLink1Description: LM4835 Datasheet; ComponentLink1URL: http://www.national.com/ds/LM/LM4835.pdf; ComponentLink2Description: LM4835 Web Page; ComponentLink2URL: http://www.national.com/pf/LM/LM4835.html; ComponentLink3Description: MTC28 Package Page; ComponentLink3URL: http://www.national.com/packaging/folders/mtc28.html
footprint MTC28_N (TSOP, 28-Leads, Body 9.7x4.4mm, Pitch 0.65mm, IPC Medium Density)
footprint MTC28_L (TSOP, 28-Leads, Body 9.7x4.4mm, Pitch 0.65mm, IPC High Density)
footprint MTC28_M (TSOP, 28-Leads, Body 9.7x4.4mm, Pitch 0.65mm, IPC Low Density)
pins: 1 GND (power), 2 SD (in), 3 GAIN SELECT (in), 4 MODE (in), 5 MUTE (in), 6 VDD (power), 7 DC VOL (in), 8 GND (power), 9 RIGHT DOCK (out), 10 RIGHT IN (in), 11 BEEP IN (in), 12 LEFT IN (in), 13 LEFT DOCK (out), 14 GND (power), 15 LEFT OUT + (out), 16 VDD (power), 17 LEFT OUT - (out), 18 LEFT GAIN 2 (in), 19 LEFT GAIN 1 (in), 20 GND (power), 21 HP SENSE (in), 22 BYPASS, 23 GND (power), 24 RIGHT GAIN 1 (in), 25 RIGHT GAIN 2 (in), 26 RIGHT OUT - (out), 27 VDD (power), 28 RIGHT OUT + (out)

## LM4835MTE
designator U?
Stereo 2W Audio Power Amplifiers with DC Volume Control and Selectable Gain, 29-pin TSSOP-EP; PartNumber: LM4835MTE; Manufacturer: National Semiconductor; PackageTopMarking: NSUZXYTT*LM4835MTE; CompType: Audio IC; Published: 4-Dec-2008; DatasheetVersion: Feb-2003; PackageVersion: revD, Oct-2003; PackageReference: MXA28A; Publisher: Altium Limited; PackageDescription: Molded TSSOP, Jedec, 9.7 x 4.4 x 0.9mm Body, 28 Lead, 0.65mm Pitch, Exposed Pad; Supplier 1: Digi-Key; Supplier Part Number 1: LM4835MTE-ND; RoHS: Y; PinCount: 28; Code_JEDEC: MO-153-AET; ComponentLink1Description: LM4835 Datasheet; ComponentLink1URL: http://www.national.com/ds/LM/LM4835.pdf; ComponentLink2Description: LM4835 Web Page; ComponentLink2URL: http://www.national.com/pf/LM/LM4835.html; ComponentLink3Description: MXA28A Package Page; ComponentLink3URL: http://www.national.com/packaging/folders/mxa28a.html
footprint MXA28A_N (TSOP, 28-Leads, Body 9.7x4.4mm, Pitch 0.65mm, Exposed Pad, IPC Medium Density)
footprint MXA28A_L (TSOP, 28-Leads, Body 9.7x4.4mm, Pitch 0.65mm, Exposed Pad, IPC High Density)
footprint MXA28A_M (TSOP, 28-Leads, Body 9.7x4.4mm, Pitch 0.65mm, Exposed Pad, IPC Low Density)
pins: 1 GND (power), 2 SD (in), 3 GAIN SELECT (in), 4 MODE (in), 5 MUTE (in), 6 VDD (power), 7 DC VOL (in), 8 GND (power), 9 RIGHT DOCK (out), 10 RIGHT IN (in), 11 BEEP IN (in), 12 LEFT IN (in), 13 LEFT DOCK (out), 14 GND (power), 15 LEFT OUT + (out), 16 VDD (power), 17 LEFT OUT - (out), 18 LEFT GAIN 2 (in), 19 LEFT GAIN 1 (in), 20 GND (power), 21 HP SENSE (in), 22 BYPASS, 23 GND (power), 24 RIGHT GAIN 1 (in), 25 RIGHT GAIN 2 (in), 26 RIGHT OUT - (out), 27 VDD (power), 28 RIGHT OUT + (out), 29 DAP (power)

## LM4836MT
designator U?
Stereo 2W Audio Power Amplifiers with DC Volume Control, Bass Boost, and Input Mux, 28-pin TSSOP; PartNumber: LM4836MT; Manufacturer: National Semiconductor; PackageTopMarking: NSUZXYTT*LM4836MT; CompType: Audio IC; Published: 4-Dec-2008; DatasheetVersion: Jun-2002; PackageVersion: revD, Jan-2005; PackageReference: MTC28; Publisher: Altium Limited; PackageDescription: Molded TSSOP, Jedec, 9.7 x 4.4 x 0.9mm Body, 28 Lead, 0.65mm Pitch; RoHS: Y; PinCount: 28; Code_JEDEC: MO-153-AE; ComponentLink1Description: LM4836 Datasheet; ComponentLink1URL: http://www.national.com/ds/LM/LM4836.pdf; ComponentLink2Description: LM4836 Web Page; ComponentLink2URL: http://www.national.com/pf/LM/LM4836.html; ComponentLink3Description: MTC28 Package Page; ComponentLink3URL: http://www.national.com/packaging/folders/mtc28.html
footprint MTC28_N (TSOP, 28-Leads, Body 9.7x4.4mm, Pitch 0.65mm, IPC Medium Density)
footprint MTC28_L (TSOP, 28-Leads, Body 9.7x4.4mm, Pitch 0.65mm, IPC High Density)
footprint MTC28_M (TSOP, 28-Leads, Body 9.7x4.4mm, Pitch 0.65mm, IPC Low Density)
pins: 1 GND (power), 2 MUX CONTROL (in), 3 MUTE (in), 4 VDD (power), 5 DC VOL (in), 6 GND (power), 7 LEFT IN 2 (in), 8 RIGHT IN 2 (in), 9 RIGHT DOCK (out), 10 RIGHT IN 1 (in), 11 BEEP IN (in), 12 LEFT IN 1 (in), 13 LEFT DOCK (out), 14 GND (power), 15 LEFT OUT + (out), 16 VDD (power), 17 LEFT OUT - (out), 18 LEFT BASS BOOST (in), 19 ~{BASS BOOST SELECT} (in), 20 GND (power), 21 HP SENSE (in), 22 BYPASS, 23 GND (power), 24 SD (in), 25 RIGHT BASS BOOST (in), 26 RIGHT OUT - (out), 27 VDD (power), 28 RIGHT OUT + (out)

## LM4836MTE
designator U?
Stereo 2W Audio Power Amplifiers with DC Volume Control, Bass Boost, and Input Mux, 29-pin TSSOP-EP; PartNumber: LM4836MTE; Manufacturer: National Semiconductor; PackageTopMarking: NSUZXYTT*LM4836MTE; CompType: Audio IC; Published: 4-Dec-2008; DatasheetVersion: Jun-2002; PackageVersion: revD, Oct-2003; PackageReference: MXA28A; Publisher: Altium Limited; PackageDescription: Molded TSSOP, Jedec, 9.7 x 4.4 x 0.9mm Body, 28 Lead, 0.65mm Pitch, Exposed Pad; RoHS: O; PinCount: 28; Code_JEDEC: MO-153-AET; ComponentLink1Description: LM4836 Datasheet; ComponentLink1URL: http://www.national.com/ds/LM/LM4836.pdf; ComponentLink2Description: LM4836 Web Page; ComponentLink2URL: http://www.national.com/pf/LM/LM4836.html; ComponentLink3Description: MXA28A Package Page; ComponentLink3URL: http://www.national.com/packaging/folders/mxa28a.html
footprint MXA28A_N (TSOP, 28-Leads, Body 9.7x4.4mm, Pitch 0.65mm, Exposed Pad, IPC Medium Density)
footprint MXA28A_L (TSOP, 28-Leads, Body 9.7x4.4mm, Pitch 0.65mm, Exposed Pad, IPC High Density)
footprint MXA28A_M (TSOP, 28-Leads, Body 9.7x4.4mm, Pitch 0.65mm, Exposed Pad, IPC Low Density)
pins: 1 GND (power), 2 MUX CONTROL (in), 3 MUTE (in), 4 VDD (power), 5 DC VOL (in), 6 GND (power), 7 LEFT IN 2 (in), 8 RIGHT IN 2 (in), 9 RIGHT DOCK (out), 10 RIGHT IN 1 (in), 11 BEEP IN (in), 12 LEFT IN 1 (in), 13 LEFT DOCK (out), 14 GND (power), 15 LEFT OUT + (out), 16 VDD (power), 17 LEFT OUT - (out), 18 LEFT BASS BOOST (in), 19 ~{BASS BOOST SELECT} (in), 20 GND (power), 21 HP SENSE (in), 22 BYPASS, 23 GND (power), 24 SD (in), 25 RIGHT BASS BOOST (in), 26 RIGHT OUT - (out), 27 VDD (power), 28 RIGHT OUT + (out), 29 DAP (power)

## LM4838ITL
designator U?
Stereo 2W Audio Power Amplifiers with DC Volume Control and Selectable Gain, 36-pin Micro SMD; PartNumber: LM4838ITL; Manufacturer: National Semiconductor; PackageTopMarking: XYTT*I GA4; PowerWise: N; CompType: Audio IC; Published: 4-Dec-2008; DatasheetVersion: Nov-2004; PackageVersion: revC, Dec-2003; PackageReference: TLA36AAA; Publisher: Altium Limited; PackageDescription: Thin Micro SMD, 36 Bump (Large), 0.5mm Pitch; Supplier 1: Farnell; Supplier Part Number 1: 1286901; RoHS: Y; PinCount: 36; Code_JEDEC: MO-211-DK; ComponentLink1Description: LM4838 Datasheet; ComponentLink1URL: http://www.national.com/ds/LM/LM4838.pdf; ComponentLink2Description: LM4838 Web Page; ComponentLink2URL: http://www.national.com/pf/LM/LM4838.html; ComponentLink3Description: TLA36AAA Package Page; ComponentLink3URL: http://www.national.com/packaging/folders/tla36aaa.html
footprint TLA36AAA (Micro SMD, 36-Leads, Body 3x3mm, Pitch 0.5mm, NSC Recommended)
pins: A1 NC, A2 GND (power), A3 HP SENSE (in), A4 BYPASS, A5 GND (power), A6 NC, B1 LEFT OUT - (out), B2 LEFT GAIN 2 (in), B3 NC, B4 NC, B5 RIGHT GAIN 2 (in), B6 RIGHT OUT - (out), C1 VDD (power), C2 LEFT GAIN 1 (in), C3 NC, C4 NC, C5 RIGHT GAIN 1 (in), C6 VDD (power), D1 LEFT OUT + (out), D2 LEFT IN (in), D3 BEEP IN (in), D4 DC VOL (in), D5 GAIN SELECT (in), D6 RIGHT OUT + (out), E1 GND (power), E2 LEFT DOCK (out), E3 RIGHT DOCK (out), E4 MUTE (in), E5 SD (in), E6 GND (power), F1 NC, F2 RIGHT IN (in), F3 GND (power), F4 VDD (power), F5 MODE (in), F6 NC

## LM4838MT
designator U?
Stereo 2W Audio Power Amplifiers with DC Volume Control and Selectable Gain, 28-pin TSSOP; PartNumber: LM4838MT; Manufacturer: National Semiconductor; PackageTopMarking: NSUZXYTT*LM4838MT; CompType: Audio IC; Published: 4-Dec-2008; DatasheetVersion: Nov-2004; PackageVersion: revD, Jan-2005; PackageReference: MTC28; Publisher: Altium Limited; PackageDescription: Molded TSSOP, Jedec, 9.7 x 4.4 x 0.9mm Body, 28 Lead, 0.65mm Pitch; Supplier 1: Farnell; Supplier Part Number 1: 1286898; RoHS: Y; PinCount: 28; Code_JEDEC: MO-153-AE; ComponentLink1Description: LM4838 Datasheet; ComponentLink1URL: http://www.national.com/ds/LM/LM4838.pdf; ComponentLink2Description: LM4838 Web Page; ComponentLink2URL: http://www.national.com/pf/LM/LM4838.html; ComponentLink3Description: MTC28 Package Page; ComponentLink3URL: http://www.national.com/packaging/folders/mtc28.html
footprint MTC28_N (TSOP, 28-Leads, Body 9.7x4.4mm, Pitch 0.65mm, IPC Medium Density)
footprint MTC28_L (TSOP, 28-Leads, Body 9.7x4.4mm, Pitch 0.65mm, IPC High Density)
footprint MTC28_M (TSOP, 28-Leads, Body 9.7x4.4mm, Pitch 0.65mm, IPC Low Density)
pins: 1 GND (power), 2 SD (in), 3 GAIN SELECT (in), 4 MODE (in), 5 MUTE (in), 6 VDD (power), 7 DC VOL (in), 8 GND (power), 9 RIGHT DOCK (out), 10 RIGHT IN (in), 11 BEEP IN (in), 12 LEFT IN (in), 13 LEFT DOCK (out), 14 GND (power), 15 LEFT OUT + (out), 16 VDD (power), 17 LEFT OUT - (out), 18 LEFT GAIN 2 (in), 19 LEFT GAIN 1 (in), 20 GND (power), 21 HP SENSE (in), 22 BYPASS, 23 GND (power), 24 RIGHT GAIN 1 (in), 25 RIGHT GAIN 2 (in), 26 RIGHT OUT - (out), 27 VDD (power), 28 RIGHT OUT + (out)

## LM4838MTE
designator U?
Stereo 2W Audio Power Amplifiers with DC Volume Control and Selectable Gain, 29-pin TSSOP-EP; PartNumber: LM4838MTE; Manufacturer: National Semiconductor; PackageTopMarking: NSUZXYTT*LM4838MTE; CompType: Audio IC; Published: 4-Dec-2008; DatasheetVersion: Nov-2004; PackageVersion: revD, Oct-2003; PackageReference: MXA28A; Publisher: Altium Limited; PackageDescription: Molded TSSOP, Jedec, 9.7 x 4.4 x 0.9mm Body, 28 Lead, 0.65mm Pitch, Exposed Pad; Supplier 1: Farnell; Supplier Part Number 1: 1286899; RoHS: Y; PinCount: 28; Code_JEDEC: MO-153-AET; ComponentLink1Description: LM4838 Datasheet; ComponentLink1URL: http://www.national.com/ds/LM/LM4838.pdf; ComponentLink2Description: LM4838 Web Page; ComponentLink2URL: http://www.national.com/pf/LM/LM4838.html; ComponentLink3Description: MXA28A Package Page; ComponentLink3URL: http://www.national.com/packaging/folders/mxa28a.html
footprint MXA28A_N (TSOP, 28-Leads, Body 9.7x4.4mm, Pitch 0.65mm, Exposed Pad, IPC Medium Density)
footprint MXA28A_L (TSOP, 28-Leads, Body 9.7x4.4mm, Pitch 0.65mm, Exposed Pad, IPC High Density)
footprint MXA28A_M (TSOP, 28-Leads, Body 9.7x4.4mm, Pitch 0.65mm, Exposed Pad, IPC Low Density)
pins: 1 GND (power), 2 SD (in), 3 GAIN SELECT (in), 4 MODE (in), 5 MUTE (in), 6 VDD (power), 7 DC VOL (in), 8 GND (power), 9 RIGHT DOCK (out), 10 RIGHT IN (in), 11 BEEP IN (in), 12 LEFT IN (in), 13 LEFT DOCK (out), 14 GND (power), 15 LEFT OUT + (out), 16 VDD (power), 17 LEFT OUT - (out), 18 LEFT GAIN 2 (in), 19 LEFT GAIN 1 (in), 20 GND (power), 21 HP SENSE (in), 22 BYPASS, 23 GND (power), 24 RIGHT GAIN 1 (in), 25 RIGHT GAIN 2 (in), 26 RIGHT OUT - (out), 27 VDD (power), 28 RIGHT OUT + (out), 29 DAP (power)

## LM4839LQ
designator U?
Stereo 2W Audio Power Amplifiers with DC Volume Control, Bass Boost, and Input Mux, 29-pin LLP; PartNumber: LM4839LQ; Manufacturer: National Semiconductor; PackageTopMarking: NS*UZXYTT*L4839LQ; PowerWise: N; CompType: Audio IC; Published: 4-Dec-2008; DatasheetVersion: Apr-2002; PackageVersion: revB, Jul-2001; PackageReference: LQA28A; Publisher: Altium Limited; PackageDescription: LLP, Plastic, Quad, 5 x 5 x 0.75mm Body, 28 Lead, 0.5mm Pitch; Supplier 1: Farnell; Supplier Part Number 1: 1312770; RoHS: Y; PinCount: 28; Code_JEDEC: MO-220-WHHD-1; ComponentLink1Description: LM4839 Datasheet; ComponentLink1URL: http://www.national.com/ds/LM/LM4839.pdf; ComponentLink2Description: LM4839 Web Page; ComponentLink2URL: http://www.national.com/pf/LM/LM4839.html; ComponentLink3Description: LQA28A Package Page; ComponentLink3URL: http://www.national.com/packaging/folders/lqa28a.html
footprint LQA28A (PQFN, 28-Leads, Body 5x5mm, Pitch 0.5mm, NSC Recommended)
pins: 1 VDD (power), 2 DC VOL (in), 3 GND (power), 4 LEFT IN 2 (in), 5 RIGHT IN 2 (in), 6 RIGHT DOCK (out), 7 RIGHT IN 1 (in), 8 BEEP IN (in), 9 LEFT IN 1 (in), 10 LEFT DOCK (out), 11 GND (power), 12 LEFT OUT + (out), 13 VDD (power), 14 LEFT OUT - (out), 15 LEFT BASS BOOST (in), 16 ~{BASS BOOST SELECT} (in), 17 GND (power), 18 HP SENSE (in), 19 BYPASS, 20 GND (power), 21 SD (in), 22 RIGHT BASS BOOST (in), 23 RIGHT OUT - (out), 24 VDD (power), 25 RIGHT OUT + (out), 26 GND (power), 27 MUX CONTROL (in), 28 MUTE (in), 29 DAP (power)

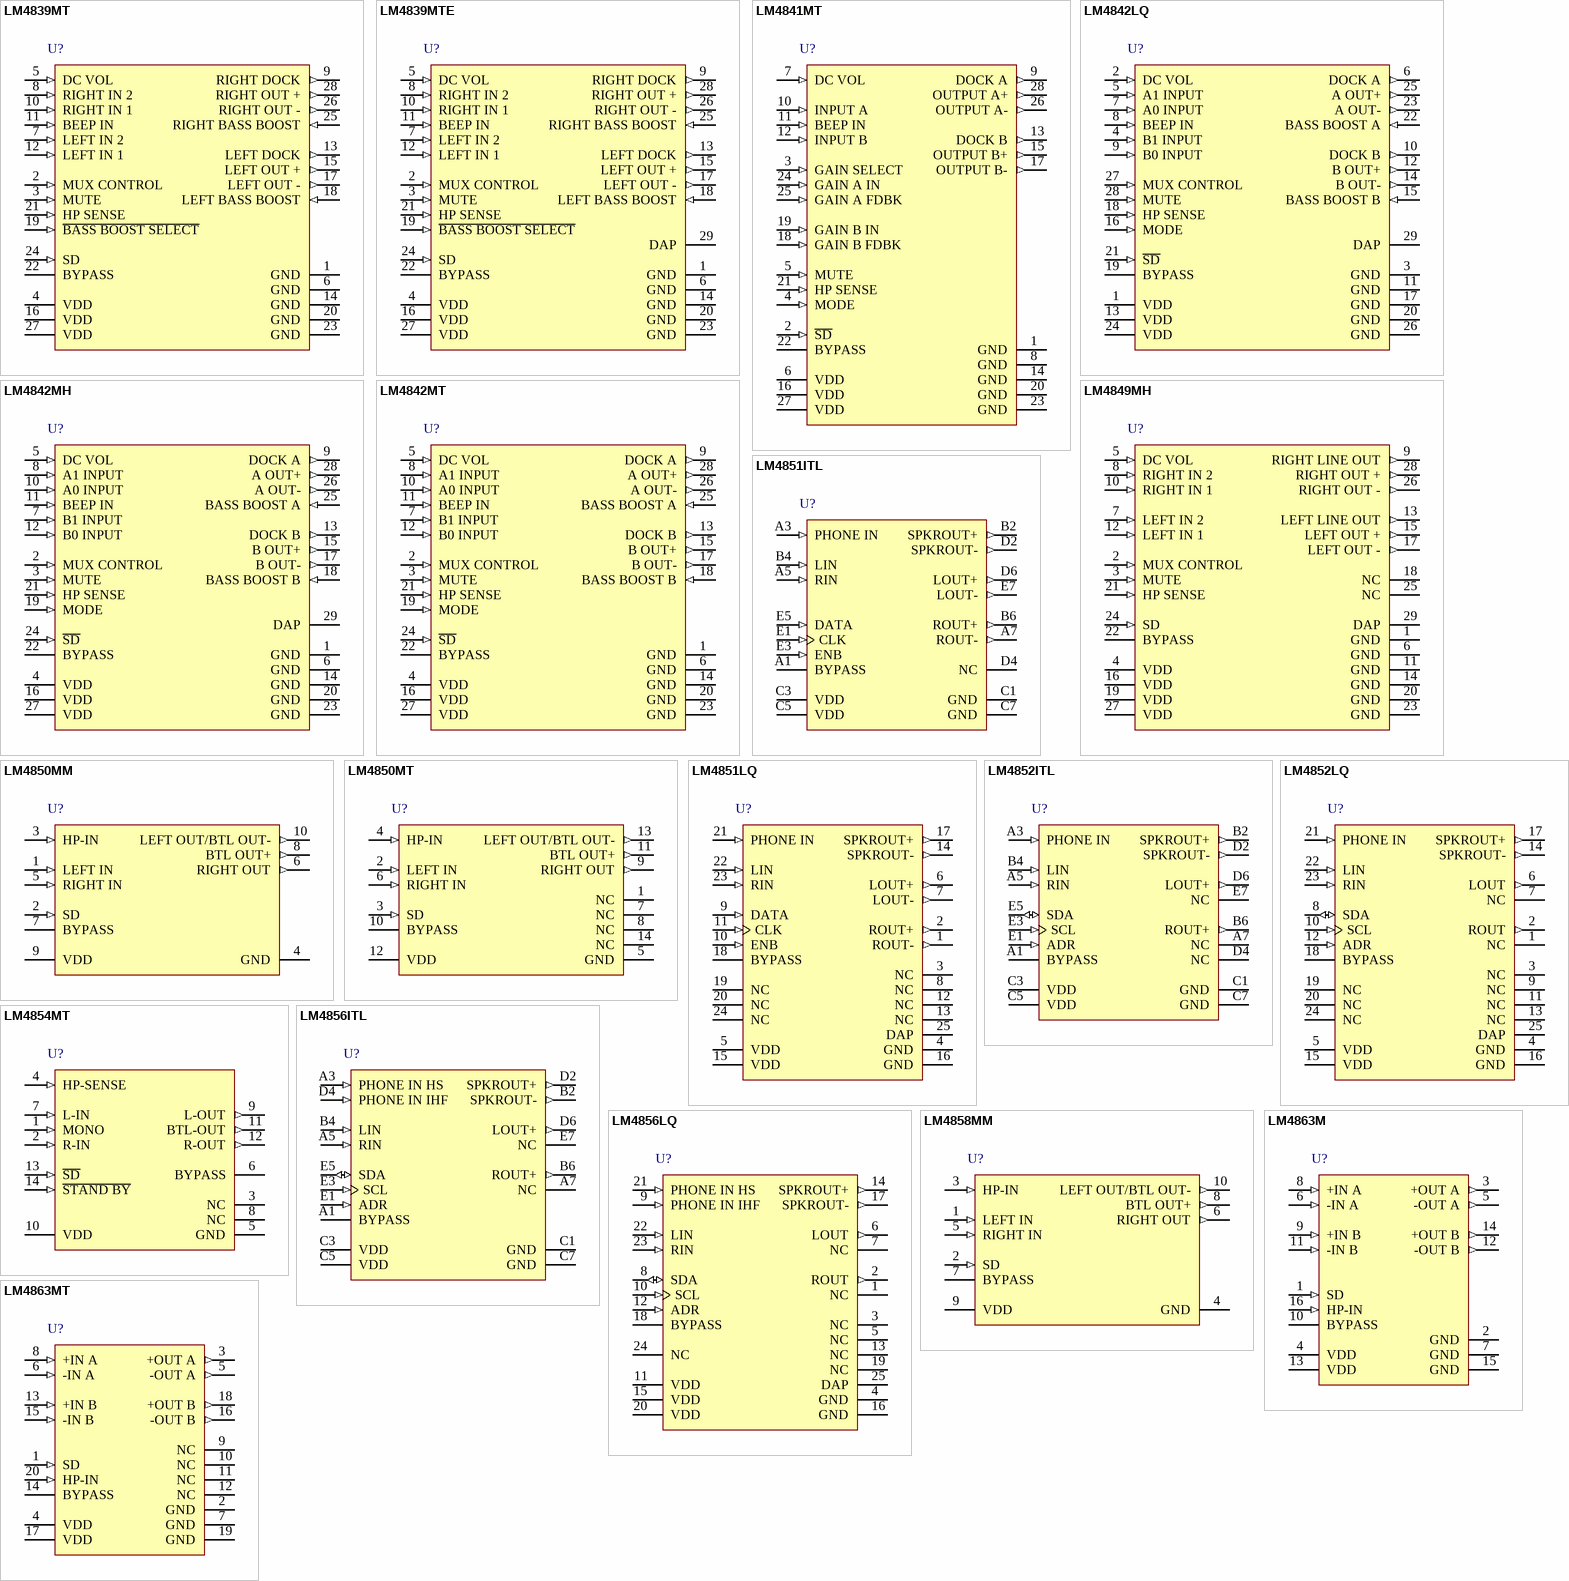
[diagram p13: symbols LM4839MT to LM4863MT]

## LM4839MT
designator U?
Stereo 2W Audio Power Amplifiers with DC Volume Control, Bass Boost, and Input Mux, 28-pin TSSOP; PartNumber: LM4839MT; Manufacturer: National Semiconductor; PackageTopMarking: NSUZXYTT*LM4839MT; CompType: Audio IC; Published: 4-Dec-2008; DatasheetVersion: Apr-2002; PackageVersion: revD, Jan-2005; PackageReference: MTC28; Publisher: Altium Limited; PackageDescription: Molded TSSOP, Jedec, 9.7 x 4.4 x 0.9mm Body, 28 Lead, 0.65mm Pitch; Supplier 1: Farnell; Supplier Part Number 1: 1286902; RoHS: Y; PinCount: 28; Code_JEDEC: MO-153-AE; ComponentLink1Description: LM4839 Datasheet; ComponentLink1URL: http://www.national.com/ds/LM/LM4839.pdf; ComponentLink2Description: LM4839 Web Page; ComponentLink2URL: http://www.national.com/pf/LM/LM4839.html; ComponentLink3Description: MTC28 Package Page; ComponentLink3URL: http://www.national.com/packaging/folders/mtc28.html
footprint MTC28_N (TSOP, 28-Leads, Body 9.7x4.4mm, Pitch 0.65mm, IPC Medium Density)
footprint MTC28_L (TSOP, 28-Leads, Body 9.7x4.4mm, Pitch 0.65mm, IPC High Density)
footprint MTC28_M (TSOP, 28-Leads, Body 9.7x4.4mm, Pitch 0.65mm, IPC Low Density)
pins: 1 GND (power), 2 MUX CONTROL (in), 3 MUTE (in), 4 VDD (power), 5 DC VOL (in), 6 GND (power), 7 LEFT IN 2 (in), 8 RIGHT IN 2 (in), 9 RIGHT DOCK (out), 10 RIGHT IN 1 (in), 11 BEEP IN (in), 12 LEFT IN 1 (in), 13 LEFT DOCK (out), 14 GND (power), 15 LEFT OUT + (out), 16 VDD (power), 17 LEFT OUT - (out), 18 LEFT BASS BOOST (in), 19 ~{BASS BOOST SELECT} (in), 20 GND (power), 21 HP SENSE (in), 22 BYPASS, 23 GND (power), 24 SD (in), 25 RIGHT BASS BOOST (in), 26 RIGHT OUT - (out), 27 VDD (power), 28 RIGHT OUT + (out)